# Altium footprint library RJxx.PcbLib: 2 footprints
Each footprint in its own frame and in the unit in brackets; x right, y up, seen from the top. Pads: shape width x height; smd on the part's side, far side on the other; paste and mask are expansions set on the pad; w line width, h text height; cw(c..) or ccw(c..) is an arc to the next point about the centre after c.
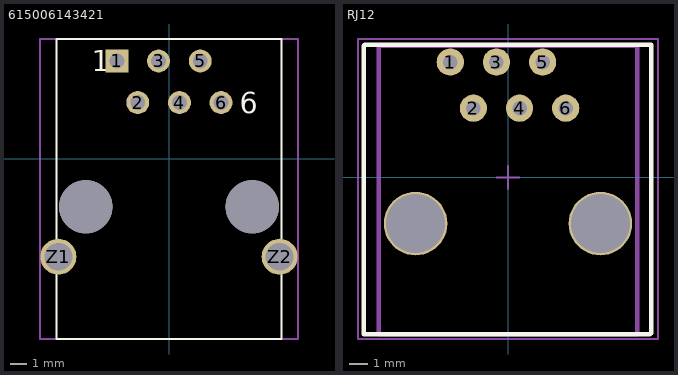
[diagram p0: the footprints below, top view; thin cyan lines are the x and y axes]

## 615006143421 [mm] "Horizontal Half-shielded 1x1 TH    6P6C Tab Down"
height 13.07
pads (10):
  rect 1.4x1.4 hole 0.9: 1(-3.175,5.97)
  round 1.4 hole 0.9: 2(-1.905,3.43) 3(-0.635,5.97) 4(0.635,3.43) 5(1.905,5.97) 6(3.175,3.43)
  round 2.2 hole 1.7: Z1(-6.75,-5.97) Z2(6.75,-5.97)
  round 3.25 hole 3.25 unplated: ""(-5.08,-2.92) ""(5.08,-2.92)
Top Overlay:
  lines w0.127: -6.85,-10.99 -6.85,7.31 6.85,7.31 6.85,-10.99 -6.85,-10.99
  text "6" at 4.318,2.794 h1.27
  text "1" at -4.699,5.334 h1.27
Mechanical 15:
  lines w0.127: -7.875,-10.99 -7.875,7.31 7.875,7.31 7.875,-10.99 -7.875,-10.99
3D body "615006143421.stp": height 13.08, standoff -4.12, extent -7.875,-10.99 7.875,7.31

## RJ12 [mm]
pads (8):
  round 1.5 hole 0.8: 1(-3.175,6.35) 2(-1.905,3.81) 3(-0.635,6.35) 4(0.635,3.81) 5(1.905,6.35) 6(3.175,3.81)
  round 3.5 hole 3.25: ""(-5.085,-2.54) ""(5.085,-2.54)
Top Overlay:
  lines w0.254: -7.938,-8.636 7.81,-8.636 7.874,-8.572 7.874,7.302 -7.874,7.302 -7.938,7.239 -7.938,-8.636
Mechanical 13:
  lines w0.254: -7.112,-8.636 6.096,-8.636 7.112,-8.636 7.112,-6.35 7.112,5.08 7.112,7.239 -7.112,7.239 -7.112,5.08 -7.112,-6.477 -7.112,-8.636
  text ".Designator" at -5.842,1.143 h2
Mechanical 15:
  lines w0.127: -0.635,0 0.635,0 ; 0,-0.635 0,0.635 ; -8.255,-8.89 -8.255,7.62 8.255,7.62 8.255,-8.89 -8.255,-8.89
3D body "User Library-FCI 90512-001LF.step": height 15.02, standoff -3.92, extent -7.875,-8.57 7.875,7.3